# EAGLE library part ACJ*-MHDR (library connectors)
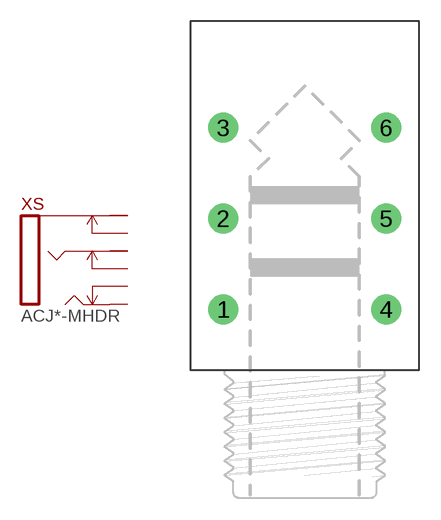
[diagram p0: symbol with the pads of ACJS-MHDR; footprint ACJS-MHDR]

Designator prefix XS

## ACJM-MHDR (MOUSER: 523-ACJM-MHDR), ACJS-MHDR (MOUSER: 523-ACJS-MHDR)  [ACJS-MHDR]
1  SN  pas
2  RN  pas
3  TN  pas
4  S  pas
5  R  pas
6  T  pas

## Footprint ACJS-MHDR (pad centres in mm)
drill 1.4: 1 -5.7,4.25; 2 -5.7,10.6; 3 -5.7,16.95; 4 5.7,4.25; 5 5.7,10.6; 6 5.7,16.95